# Altium integrated library mech-pins.IntLib: 33 symbols
Pins are listed as number, name and electrical type; pins without a type are passive.

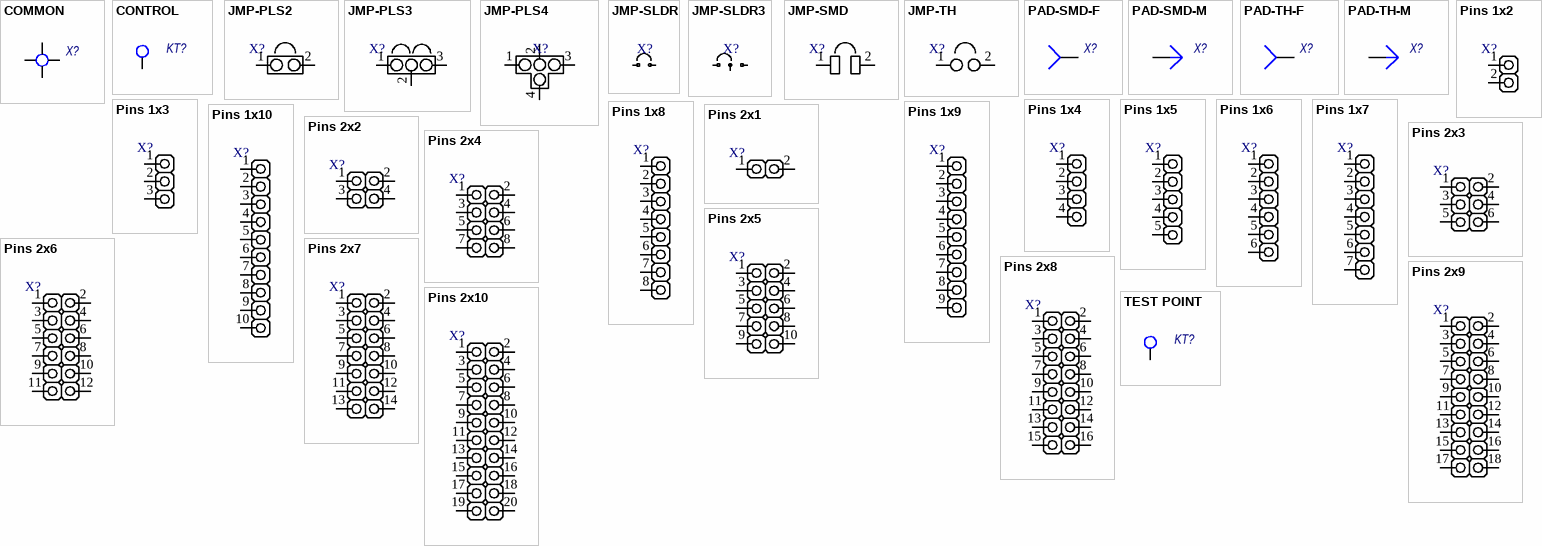
[diagram p0: symbols COMMON to TEST POINT]

## COMMON
designator X?, comment Common point  (value not drawn)
Name: Common point
footprint COMMON-1.0
pins: 1, 2, 3, 4

## CONTROL
designator KT?, comment Control point  (value not drawn)
Name: Control point
footprint PAD-1.0
footprint PAD-1.3
footprint PAD-1.5
footprint PAD-1.8
footprint PAD-2.0
pins: 1

## JMP-PLS2
designator X?  (value not drawn)
Jumper 2; Name: *; LatestRevisionDate: 11-01-2018
footprint JMP-2.0-2
footprint JMP-2.54-2
pins: 1, 2

## JMP-PLS3
designator X?  (value not drawn)
Jumper 3; Name: *; LatestRevisionDate: 11-01-2018
footprint JMP-2.0-3
footprint JMP-2.54-3
pins: 1, 2, 3

## JMP-PLS4
designator X?  (value not drawn)
Jumper 4; Name: *; LatestRevisionDate: 11-01-2018
footprint JMP-2.0-4
footprint JMP-2.54-4
pins: 1, 2, 3, 4

## JMP-SLDR
designator X?  (value not drawn)
Jumper 2 solder; Name: *; LatestRevisionDate: 11-01-2018
footprint JMP-SLDR-2-0.3x1.5
pins: 1, 2

## JMP-SLDR3
designator X?  (value not drawn)
Jumper 3 solder; Name: *; LatestRevisionDate: 11-01-2018
footprint JMP-SLDR-3-0.3x1.5
pins: 1, 2, 3

## JMP-SMD
designator X?  (value not drawn)
Jumper SMD; Name: *; LatestRevisionDate: 11-01-2018
footprint JMP-SMD-0603 (Chip Capacitor, 2-Leads, Body 1,60x0,80mm, IPC Medium Density)
footprint JMP-SMD-0805 (Chip Resistor, 2-Leads, Body 2,00x1,25mm, IPC Medium Density)
footprint JMP-SMD-1206 (Chip Resistor, 2-Leads, Body 3,13x1,55mm, IPC Medium Density)
pins: 1, 2

## JMP-TH
designator X?  (value not drawn)
Jumper Though-hole 2; Name: *; LatestRevisionDate: 11-01-2018
footprint JMP-TH-2.54
footprint JMP-TH-5.08
footprint JMP-TH-7.62
pins: 1, 2

## PAD-SMD-F
designator X?, comment Single contact  (value not drawn)
Pad single-layer female; Name: Single contact; RevisedDate: 11-01-2018
footprint PAD-1.0
footprint PAD-1.3
footprint PAD-1.5
footprint PAD-1.8
footprint PAD-2.0
footprint PAD-2.5
footprint PAD-3.0
footprint PAD-3.5
pins: 1

## PAD-SMD-M
designator X?, comment Single contact  (value not drawn)
Pad single-layer male; Name: Single contact; RevisedDate: 11-01-2018
footprint PAD-1.0
footprint PAD-1.3
footprint PAD-1.5
footprint PAD-1.8
footprint PAD-2.0
footprint PAD-2.5
footprint PAD-3.0
footprint PAD-3.5
pins: 1

## PAD-TH-F
designator X?, comment Single contact  (value not drawn)
Pad through-hole female; Name: Single contact; RevisedDate: 11-01-2018
footprint PAD-1.0-R0.6
footprint PAD-1.3-R0.8
footprint PAD-1.5-R1.0
footprint PAD-1.8-R1.2
footprint PAD-2.0-R1.4
footprint PAD-2.5-R1.6
footprint PAD-3.0-R2.0
footprint PAD-3.5-R2.3
pins: 1

## PAD-TH-M
designator X?, comment Single contact  (value not drawn)
Pad through-hole male; Name: Single contact; RevisedDate: 11-01-2018
footprint PAD-1.0-R0.6
footprint PAD-1.3-R0.8
footprint PAD-1.5-R1.0
footprint PAD-1.8-R1.2
footprint PAD-2.0-R1.4
footprint PAD-2.5-R1.6
footprint PAD-3.0-R2.0
footprint PAD-3.5-R2.3
pins: 1

## Pins 1x2
designator X?, comment PLS-1x2  (value not drawn)
Pinout 1x2; Gap: 2.54 mm; Name: PLS-1x2; LatestRevisionDate: 11-01-2018
footprint PLS2.0-1X2
footprint PLS-1X2
pins: 1, 2

## Pins 1x3
designator X?, comment PLS-1x3  (value not drawn)
Pinout 1x3; Gap: 2.54 mm; Name: PLS-1x3; LatestRevisionDate: 11-01-2018
footprint PLS2.0-1X3
footprint PLS-1X3
pins: 1, 2, 3

## Pins 1x4
designator X?, comment PLS-1x4  (value not drawn)
Pinout 1x4; Gap: 2.54 mm; Name: PLS-1x4; LatestRevisionDate: 11-01-2018
footprint PLS2.0-1X4
footprint PLS-1X4
pins: 1, 2, 3, 4

## Pins 1x5
designator X?, comment PLS-1x5  (value not drawn)
Pinout 1x5; Gap: 2.54 mm; Name: PLS-1x5; LatestRevisionDate: 11-01-2018
footprint PLS2.0-1X5
footprint PLS-1X5
pins: 1, 2, 3, 4, 5

## Pins 1x6
designator X?, comment PLS-1x6  (value not drawn)
Pinout 1x6; Gap: 2.54 mm; Name: PLS-1x6; LatestRevisionDate: 11-01-2018
footprint PLS2.0-1X6
footprint PLS-1X6
pins: 1, 2, 3, 4, 5, 6

## Pins 1x7
designator X?, comment PLS-1x7  (value not drawn)
Pinout 1x7; Gap: 2.54 mm; Name: PLS-1x7; LatestRevisionDate: 11-01-2018
footprint PLS2.0-1X7
footprint PLS-1X7
pins: 1, 2, 3, 4, 5, 6, 7

## Pins 1x8
designator X?, comment PLS-1x8  (value not drawn)
Pinout 1x8; Gap: 2.54 mm; Name: PLS-1x8; LatestRevisionDate: 11-01-2018
footprint PLS2.0-1X8
footprint PLS-1X8
pins: 1, 2, 3, 4, 5, 6, 7, 8

## Pins 1x9
designator X?, comment PLS-1x9  (value not drawn)
Pinout 1x9; Gap: 2.54 mm; Name: PLS-1x9; LatestRevisionDate: 11-01-2018
footprint PLS2.0-1X9
footprint PLS-1X9
pins: 1, 2, 3, 4, 5, 6, 7, 8, 9

## Pins 1x10
designator X?, comment PLS-1x10  (value not drawn)
Pinout 1x10; Gap: 2.54 mm; Name: PLS-1x10; LatestRevisionDate: 11-01-2018
footprint PLS2.0-1X10
footprint PLS-1X10
pins: 1, 2, 3, 4, 5, 6, 7, 8, 9, 10

## Pins 2x1
designator X?, comment PLS-2x1  (value not drawn)
Pinout 2x10; Gap: 2.54 mm; Name: PLS-2x1; LatestRevisionDate: 11-01-2018
footprint PLS2.0-1X2
footprint PLS-2X1
pins: 1, 2

## Pins 2x2
designator X?, comment PLS-2x2  (value not drawn)
Pinout 2x10; Gap: 2.54 mm; Name: PLS-2x2; LatestRevisionDate: 11-01-2018
footprint PLS2.0-2X2
footprint PLS-2X2
pins: 1, 2, 3, 4

## Pins 2x3
designator X?, comment PLS-2x3  (value not drawn)
Pinout 2x10; Gap: 2.54 mm; Name: PLS-2x3; LatestRevisionDate: 11-01-2018
footprint PLS2.0-2X3
footprint PLS-2X3
pins: 1, 2, 3, 4, 5, 6

## Pins 2x4
designator X?, comment PLS-2x4  (value not drawn)
Pinout 2x10; Gap: 2.54 mm; Name: PLS-2x4; LatestRevisionDate: 11-01-2018
footprint PLS2.0-2X4
footprint PLS-2X4
pins: 1, 2, 3, 4, 5, 6, 7, 8

## Pins 2x5
designator X?, comment PLS-2x5  (value not drawn)
Pinout 2x10; Gap: 2.54 mm; Name: PLS-2x5; LatestRevisionDate: 11-01-2018
footprint PLS2.0-2X5
footprint PLS-2X5
pins: 1, 2, 3, 4, 5, 6, 7, 8, 9, 10

## Pins 2x6
designator X?, comment PLS-2x6  (value not drawn)
Pinout 2x10; Gap: 2.54 mm; Name: PLS-2x6; LatestRevisionDate: 11-01-2018
footprint PLS2.0-2X6
footprint PLS-2X6
pins: 1, 2, 3, 4, 5, 6, 7, 8, 9, 10, 11, 12

## Pins 2x7
designator X?, comment PLS-2x7  (value not drawn)
Pinout 2x10; Gap: 2.54 mm; Name: PLS-2x7; LatestRevisionDate: 11-01-2018
footprint PLS2.0-2X7
footprint PLS-2X7
pins: 1, 2, 3, 4, 5, 6, 7, 8, 9, 10, 11, 12, 13, 14

## Pins 2x8
designator X?, comment PLS-2x8  (value not drawn)
Pinout 2x10; Gap: 2.54 mm; Name: PLS-2x8; LatestRevisionDate: 11-01-2018
footprint PLS2.0-2X8
footprint PLS-2X8
pins: 1, 2, 3, 4, 5, 6, 7, 8, 9, 10, 11, 12, 13, 14, 15, 16

## Pins 2x9
designator X?, comment PLS-2x9  (value not drawn)
Pinout 2x10; Gap: 2.54 mm; Name: PLS-2x9; LatestRevisionDate: 11-01-2018
footprint PLS2.0-2X9
footprint PLS-2X9
pins: 1, 2, 3, 4, 5, 6, 7, 8, 9, 10, 11, 12, 13, 14, 15, 16, 17, 18

## Pins 2x10
designator X?, comment PLS-2x10  (value not drawn)
Pinout 2x10; Gap: 2.54 mm; Name: PLS-2x10; LatestRevisionDate: 11-01-2018
footprint PLS2.0-2X10
footprint PLS-2X10
pins: 1, 2, 3, 4, 5, 6, 7, 8, 9, 10, 11, 12, 13, 14, 15, 16, 17, 18, 19, 20

## TEST POINT
designator KT?, comment Test point  (value not drawn)
Name: Test point; RevisedDate: 11-01-2018
footprint PAD-1.0
footprint PAD-1.3
footprint PAD-1.5
footprint PAD-1.8
footprint PAD-2.0
pins: 1